# EAGLE library part SIM_CARD_MODULE (library dragino)
SIM Card Module Source:http://www.jisen.cc/cpjs.asp?id=535
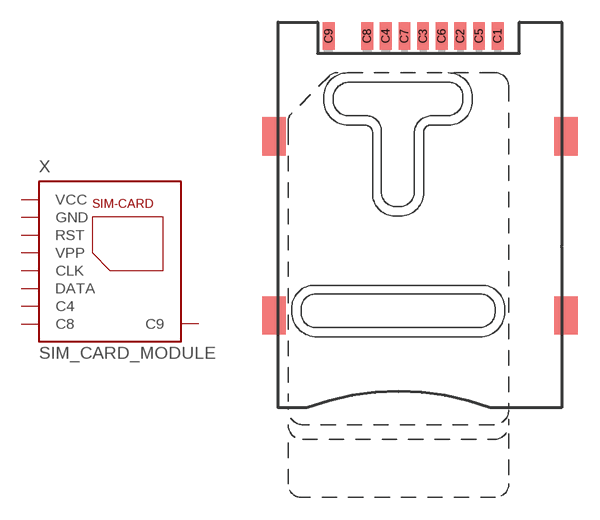
[diagram p26: symbol with the pads of SIM-0002; footprint SIM-0002]

Designator prefix X

## SIM_CARD_MODULE (OC_FARNELL: unknown; OC_NEWARK: unknown), SIM_CARD_MODULEJISEN  [SIM-0002]
C1  VCC  pas
C2  RST  pas
C3  CLK  pas
C4  C4  pas
C5  GND  pas
C6  VPP  pas
C7  DATA  pas
C8  C8  pas
C9  C9

## Footprint SIM-0002 (pad centres in mm)
SIM Card Module Source: http://www.kyocera-elco.com/prdct/pdf/5036.pdf
smd 0.8 x 1.9: C1 5.3,19.05; C2 2.76,19.05; C3 0.22,19.05; C4 -2.32,19.05; C5 4.03,19.05; C6 1.49,19.05; C7 -1.05,19.05; C8 -3.59,19.05; C9 -6.21,19.05